# EAGLE library part CFAL12832D-B (library CrystalFontz)
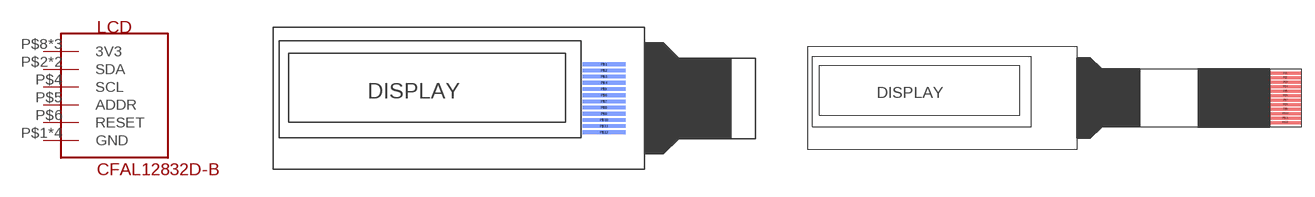
[diagram p0: symbol with the pads of CFAL12832D-B_FOLDED; footprints CFAL12832D-B_FOLDED, CFAL12832D-B]

Designator prefix LCD

## CFAL12832D-BFOLDED  [CFAL12832D-B_FOLDED]
P$1  GND
P$2  SDA
P$3  SDA
P$4  SCL
P$5  ADDR
P$6  RESET
P$7  GND
P$8  3V3
P$9  GND
P$10  3V3
P$11  3V3
P$12  GND

## CFAL12832D-BSTRAIGHT  [CFAL12832D-B]
Pads as for CFAL12832D-B_FOLDED

## Footprint CFAL12832D-B_FOLDED (pad centres in mm)
smd 3.5 x 0.3 bottom: P$1 26.75,8.5; P$2 26.75,8; P$3 26.75,7.5; P$4 26.75,7; P$5 26.75,6.5; P$6 26.75,6; P$7 26.75,5.5; P$8 26.75,5; P$9 26.75,4.5; P$10 26.75,4; P$11 26.75,3.5; P$12 26.75,3

## Footprint CFAL12832D-B (pad centres in mm)
smd 3.5 x 0.3: P$1 53.25,8.5; P$2 53.25,8; P$3 53.25,7.5; P$4 53.25,7; P$5 53.25,6.5; P$6 53.25,6; P$7 53.25,5.5; P$8 53.25,5; P$9 53.25,4.5; P$10 53.25,4; P$11 53.25,3.5; P$12 53.25,3